# Altium footprint library SOD-123W-2.PcbLib: 1 footprints
Each footprint in its own frame and in the unit in brackets; x right, y up, seen from the top. Pads: shape width x height; smd on the part's side, far side on the other; paste and mask are expansions set on the pad; w line width, h text height; cw(c..) or ccw(c..) is an arc to the next point about the centre after c.
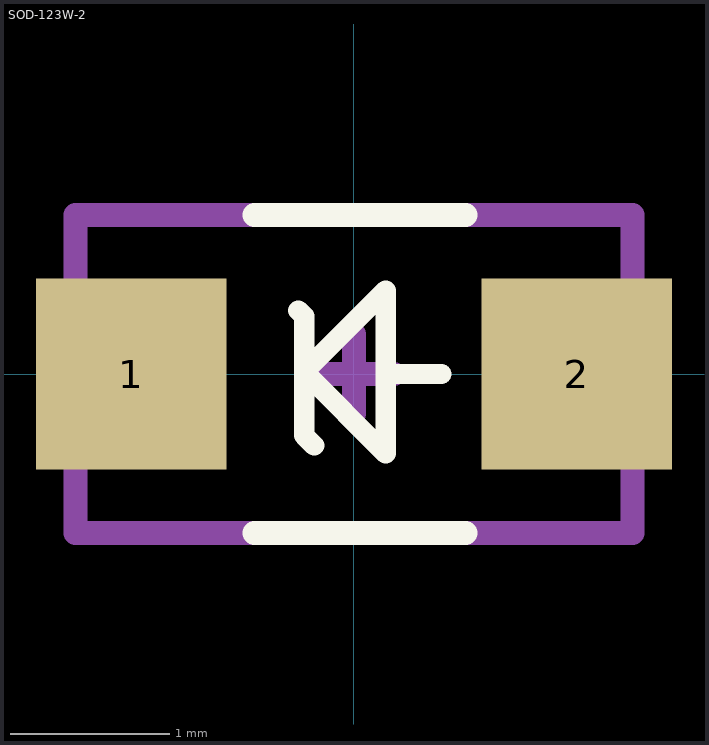
[diagram p0: the footprint, top view; thin cyan lines are the x and y axes]

## SOD-123W-2 [mm]
pads (2):
  rect 1.2x1.2 smd mask+0.051: 1(-1.4,0) 2(1.4,0)
Top Overlay:
  lines w0.127: -0.35,0.4 -0.313,0.363 -0.313,0.013 ; -0.25,-0.45 -0.313,-0.387 -0.313,0.013 ; 0.55,0 0.2,0 ; -0.313,0.013 0.2,0.526 ; -0.313,0.013 0.2,-0.5 0.2,0 ; 0.2,0 0.2,0.526 ; 0.2,0 0.2,0.526
  lines w0.15: -0.625,-1 0.7,-1 ; -0.625,1 -0.294,1 0.369,1 0.7,1
Mechanical 13:
  lines w0.15: -1.75,-1 1.75,-1 1.75,-0.15 1.75,0.85 1.75,1 -1.75,1 -1.75,0.5 -1.75,-0.5 -1.75,-1
Mechanical 15:
  lines w0.15: -0.25,0 0,0 ; 0,-0.25 0,0 ; 0,0.25 0,0 ; 0.25,0 0,0
3D body "SOD123W.step": height 1.1, standoff 0.03, extent -1.75,-1 1.75,1